# Altium footprint library __ui.PcbLib: 79 footprints (part 4 of 5)
Each footprint in its own frame and in the unit in brackets; x right, y up, seen from the top. Pads: shape width x height; smd on the part's side, far side on the other; paste and mask are expansions set on the pad; w line width, h text height; cw(c..) or ccw(c..) is an arc to the next point about the centre after c.
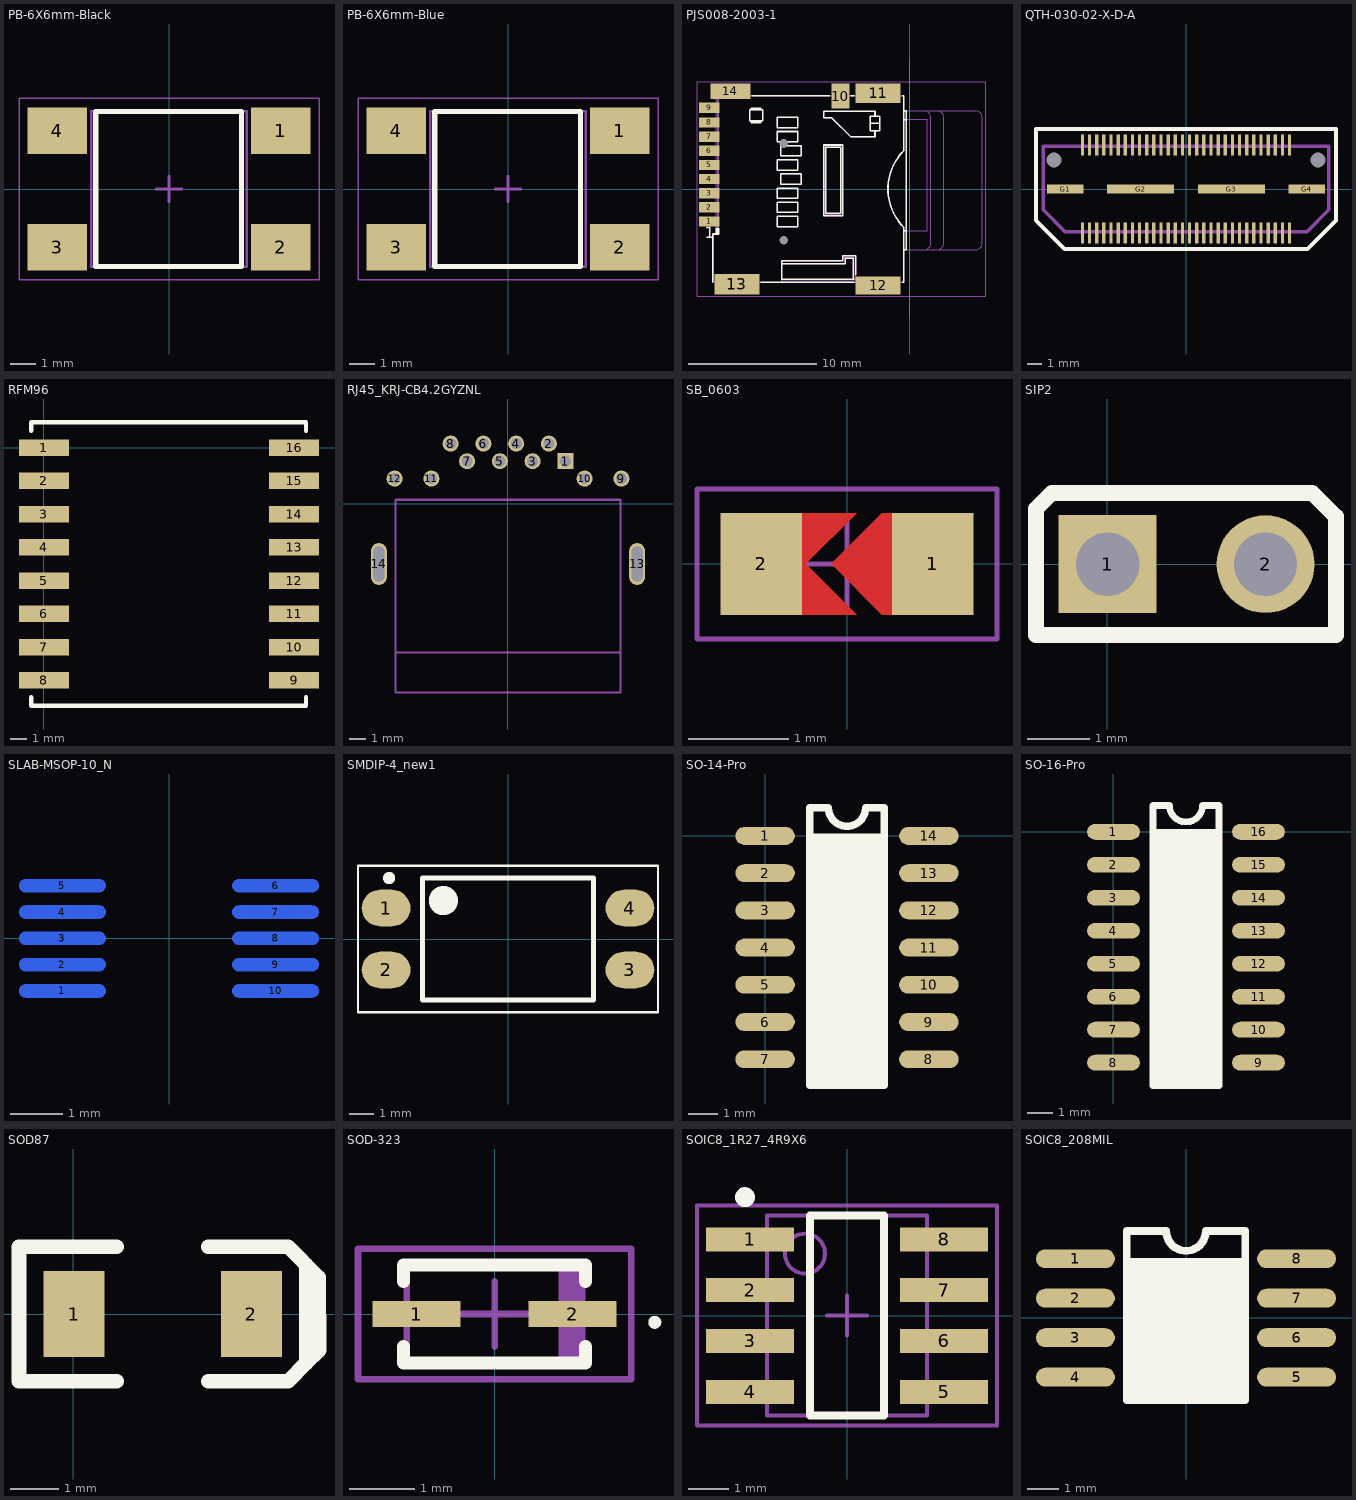
[diagram p3: the footprints below, top view; thin cyan lines are the x and y axes]

## PB-6X6mm-Black [mm] "Surface Mounting Type Tact Switch, 4-Leads, Body 6x6mm, Height 4.5mm Black"
height 4.5
pads (4):
  rect 2.3x1.8 smd: 1(4.325,2.25) 2(4.325,-2.25) 3(-4.325,-2.25) 4(-4.325,2.25)
Top Overlay:
  lines w0.2: -2.831,-3 2.808,-3 2.808,3 -2.831,3 -2.831,-3
Mechanical 13:
  lines w0.1: -3,-3 -3,3 3,3 3,-3 -3,-3
Mechanical 15:
  lines w0.05: -5.8,-3.5 -5.8,3.5 5.8,3.5 5.8,-3.5 -5.8,-3.5
  lines w0.1: -0.5,0 0.5,0 ; 0,-0.5 0,0.5
3D body: height 3.9, standoff 2.3, extent 1.359,-2.956 2.95,-1.362
3D body: height 3.9, standoff 2.3, extent -2.956,-2.951 -1.362,-1.359
3D body: height 3.9, standoff 2.3, extent 1.363,1.359 2.956,2.95
3D body: height 3.9, standoff 2.3, extent -2.951,1.363 -1.359,2.956
3D body: height 10.5, standoff 3.5, extent -1.736,-1.746 1.75,1.747
3D body: height 3.5, standoff 0, extent -3,-3 3,3

## PB-6X6mm-Blue [mm] "Surface Mounting Type Tact Switch, 4-Leads, Body 6x6mm, Height 4.5mm,Blue"
height 4.5
pads (4):
  rect 2.3x1.8 smd: 1(4.325,2.25) 2(4.325,-2.25) 3(-4.325,-2.25) 4(-4.325,2.25)
Top Overlay:
  lines w0.2: -2.831,-3 -2.831,3 2.808,3 2.808,-3 -2.831,-3
Mechanical 13:
  lines w0.1: -3,-3 3,-3 3,3 -3,3 -3,-3
Mechanical 15:
  lines w0.05: -5.8,-3.5 -5.8,3.5 5.8,3.5 5.8,-3.5 -5.8,-3.5
  lines w0.1: -0.5,0 0.5,0 ; 0,-0.5 0,0.5
3D body: height 3.5, standoff 0, extent -3,-3 3,3
3D body: height 10.5, standoff 3.5, extent -1.736,-1.746 1.75,1.747
3D body: height 3.9, standoff 2.3, extent -2.951,1.363 -1.359,2.956
3D body: height 3.9, standoff 2.3, extent 1.363,1.359 2.956,2.95
3D body: height 3.9, standoff 2.3, extent -2.956,-2.951 -1.362,-1.359
3D body: height 3.9, standoff 2.3, extent 1.359,-2.956 2.95,-1.362

## PJS008-2003-1 [mm]
pads (16):
  rect 1.6x0.8 smd paste+0 mask+0.05: 1(-15.6,-2.525) 2(-15.6,-1.425) 3(-15.6,-0.325) 4(-15.6,0.775) 5(-15.6,1.875) 6(-15.6,2.975) 7(-15.6,4.075) 8(-15.6,5.175) 9(-15.6,6.325)
  rect 1.4x1.95 smd paste+0 mask+0.05: 10(-5.4,7.225)
  rect 3.5x1.5 smd paste+0 mask+0.05: 11(-2.45,7.45)
  rect 3.5x1.4 smd paste+0 mask+0.05: 12(-2.45,-7.5)
  rect 3.5x1.6 smd paste+0 mask+0.05: 13(-13.45,-7.4)
  rect 3.1x1.2 smd paste+0 mask+0.05: 14(-13.95,7.6)
  round 0 hole 0.65 unplated mask+0.05: NPTH1(-9.8,-4)
  round 0 hole 0.7 unplated mask+0.05: NPTH2(-9.8,3.55)
Top Overlay:
  lines w0.12: -15.325,-7.25 -15.325,-3.5 -14.85,-3.5 -14.85,-3.05 ; -15.05,-3.5 -15.05,-3.05 ; -14.95,-3.5 -14.95,-3.05 ; -12.325,5.3 -12.325,5.175 -11.575,5.175 -11.575,5.3 ; -12.325,6.175 -12.325,6.3 -11.575,6.3 -11.575,6.175 ; -12.275,7.25 -6.225,7.25 ; -11.575,-7.25 -4.325,-7.25 ; -9.95,-5.825 -5.025,-5.825 -5.025,-5.375 -4.375,-5.375 -4.375,-7.025 ; -4.575,7.25 -4.325,7.25 ; -4.325,-7.025 -9.95,-7.025 -9.95,-5.575 -5.2,-5.575 -5.2,-5.2 -4.2,-5.2 -4.2,-6.675 ; -3.075,5.113 -2.325,5.113 ; -2.7,4.55 -2.7,4.05 -4.575,4.05 -6.075,5.55 -6.7,5.55 -6.7,6.05 -2.7,6.05 -2.7,5.675 ; -0.575,-7.25 -0.45,-7.25 -0.45,-3 cw(c2.55,0) -0.45,3 -0.45,7.25 -0.575,7.25 ; -0.452,-3.257 -0.284,-3.258 ; -0.452,5.379 -0.284,5.378 ; -0.45,-4.725 -0.283,-4.725 -0.283,6.074 -0.45,6.075 ; -12.45,5.3 -12.45,6.175 -11.45,6.175 -11.45,5.3 -12.45,5.3 ; -10.3,-2.925 -8.7,-2.925 -8.7,-2.125 -10.3,-2.125 -10.3,-2.925 ; -10.3,-1.825 -10.3,-1.025 -8.7,-1.025 -8.7,-1.825 -10.3,-1.825 ; -10.3,-0.725 -10.3,0.075 -8.7,0.075 -8.7,-0.725 -10.3,-0.725 ; -10.3,1.475 -10.3,2.275 -8.7,2.275 -8.7,1.475 -10.3,1.475 ; -10.3,3.675 -10.3,4.475 -8.7,4.475 -8.7,3.675 -10.3,3.675 ; -10.3,4.775 -10.3,5.575 -8.7,5.575 -8.7,4.775 -10.3,4.775 ; -10.05,0.375 -10.05,1.175 -8.45,1.175 -8.45,0.375 -10.05,0.375 ; -10.05,2.575 -10.05,3.375 -8.45,3.375 -8.45,2.575 -10.05,2.575 ; -6.7,-2.075 -5.2,-2.075 -5.2,3.425 -6.7,3.425 -6.7,-2.075 ; -6.525,-1.9 -5.375,-1.9 -5.375,3.25 -6.525,3.25 -6.525,-1.9 ; -3.075,4.55 -2.325,4.55 -2.325,5.675 -3.075,5.675 -3.075,4.55
  text "1" at -15.95,-4.15 h1.5
Mechanical 4:
  drawing of 160 lines, arcs and shapes, not listed
  text "'.Designator'" at -9.779,-9.144 h0.75
  text "10" at -6.075,6.15 h1.5
  text "9" at -14.5,5.825 h1.5
  text "1" at -14.45,-3 h1.5
Mechanical 7:
  lines w0.01: 0,-10 0,10
  text "PCB" at 0.075,10 h1
  text "EDGE" at 0.075,-7.575 h1
3D body "PJS008-2003.STEP": height 2, standoff 0, extent -15.035,-7.175 -0.835,7.424

## QTH-030-02-X-D-A [mm]
pads (66):
  rect 0.229x1.45 smd mask+0.05: 1(-7.25,3.086) 2(-7.25,-3.086) 3(-6.75,3.086) 4(-6.75,-3.086) 5(-6.25,3.086) 6(-6.25,-3.086) 7(-5.75,3.086) 8(-5.75,-3.086) 9(-5.25,3.086) 10(-5.25,-3.086) 11(-4.75,3.086) 12(-4.75,-3.086) 13(-4.25,3.086) 14(-4.25,-3.086) 15(-3.75,3.086) 16(-3.75,-3.086) 17(-3.25,3.086) 18(-3.25,-3.086) 19(-2.75,3.086) 20(-2.75,-3.086) 21(-2.25,3.086) 22(-2.25,-3.086) 23(-1.75,3.086) 24(-1.75,-3.086) 25(-1.25,3.086) 26(-1.25,-3.086) 27(-0.75,3.086) 28(-0.75,-3.086) 29(-0.25,3.086) 30(-0.25,-3.086) 31(0.25,3.086) 32(0.25,-3.086) 33(0.75,3.086) 34(0.75,-3.086) 35(1.25,3.086) 36(1.25,-3.086) 37(1.75,3.086) 38(1.75,-3.086) 39(2.25,3.086) 40(2.25,-3.086) 41(2.75,3.086) 42(2.75,-3.086) 43(3.25,3.086) 44(3.25,-3.086) 45(3.75,3.086) 46(3.75,-3.086) 47(4.25,3.086) 48(4.25,-3.086) 49(4.75,3.086) 50(4.75,-3.086) 51(5.25,3.086) 52(5.25,-3.086) 53(5.75,3.086) 54(5.75,-3.086) 55(6.25,3.086) 56(6.25,-3.086) 57(6.75,3.086) 58(6.75,-3.086) 59(7.25,3.086) 60(7.25,-3.086)
  rect 2.54x0.64 smd mask+0.05: G1(-8.445,0) G4(8.445,0)
  rect 4.7x0.64 smd mask+0.05: G2(-3.175,0) G3(3.175,0)
  round 0 hole 1.02 unplated: MH1(-9.24,2.03) MH2(9.24,2.03)
Top Overlay:
  lines w0.254: -10.5,-2.2 -10.5,4.2 10.5,4.2 10.5,-2.2 8.5,-4.2 -8.5,-4.2 -10.5,-2.2
Mechanical 1:
  lines w0.254: -10,-1.461 -10,2.985 10,2.985 10,-1.461 8.476,-2.985 -8.476,-2.985 -10,-1.461
  text "J1" at -0.497,-0.508 h0.76

## RFM96 [mm]
pads (16):
  rect 3x1 smd: 1(0,0) 2(0,-2) 3(0,-4) 4(0,-6) 5(0,-8) 6(0,-10) 7(0,-12) 8(0,-14) 9(15.037,-14) 10(15.037,-12) 11(15.037,-10) 12(15.037,-8) 13(15.037,-6) 14(15.037,-4) 15(15.037,-2) 16(15.037,0)
Top Overlay:
  lines w0.254: -0.762,-15.016 -0.762,-15.524 15.748,-15.524 15.748,-15.016 ; -0.762,1.016 -0.762,1.524 15.748,1.524 15.748,1.016

## RJ45_KRJ-CB4.2GYZNL [mm] "RJ45  connector, right angle"
height 1
pads (14):
  rect 1x1 hole 0.7: 1(3.57,2.65)
  round 1 hole 0.7: 2(2.55,3.75) 3(1.53,2.65) 4(0.51,3.75) 5(-0.51,2.65) 6(-1.53,3.75) 7(-2.55,2.65) 8(-3.57,3.75) 9(7.06,1.57) 10(4.77,1.57) 11(-4.77,1.57) 12(-7.06,1.57)
  oval 1x2.6 hole 0.7 slot 2.2 at 90 deg: 13(8.04,-3.75) 14(-8.04,-3.75)
Mechanical 1:
  lines w0.127: -7,-9.25 7,-9.25 ; -7,-11.75 7,-11.75 7,0.25 -7,0.25 -7,-11.75
3D body: height 6.8, standoff -4.2, extent -8.103,-11.75 8.077,-9.25
3D body: height 6.8, standoff 0, extent -8.103,-9.25 8.077,3.465
3D body: height 4.2, standoff -4.2, extent -7,-9.25 7,0.25

## SB_0603 [mil] "Jumper"
height 39.37
pads (2):
  rect 32x40 smd: 1(33.75,0) 2(-33.75,0)
Top Layer:
  region: -26.25,0 -16.25,0 3.75,-20 -26.25,-20
  region: -26.25,0 -16.25,0 3.75,20 -26.25,20
  region: 23.75,20 13.75,20 -6.25,0 13.75,-20 23.75,-20
Top Paste:
  region: -26.25,0 -16.25,0 3.75,-20 -26.25,-20
  region: -26.25,0 -16.25,0 3.75,20 -26.25,20
  region: 23.75,20 13.75,20 -6.25,0 13.75,-20 23.75,-20
Top Solder:
  region: -26.25,0 -12.25,0 11.75,-24 -26.25,-24
  region: -26.25,0 -12.25,0 11.75,24 -26.25,24
  region: 23.75,24 13.75,24 -10.25,0 13.75,-24 23.75,-24
Mechanical 15:
  lines w1.97: -18.7,0 18.7,0 ; 0,-18.7 0,18.7 ; -59.06,-29.53 59.06,-29.53 59.06,29.53 -59.06,29.53 -59.06,-29.53

## SIP2 [mil]
pads (2):
  rect 62x62 hole 40: 1(0.39,-0.11)
  round 62 hole 40: 2(100.39,-0.11)
Top Overlay:
  lines w10: -45,-45 -45,35 -35,45 130,45 145,30 145,-45 -45,-45

## SLAB-MSOP-10_N [mm] "SOP, 10-Leads, Body 3x3mm, Pitch 0.5mm, IPC Medium Density"
height 1.1
pads (10):
  oval 1.65x0.25 smd far side: 1(-2.025,-1) 2(-2.025,-0.5) 3(-2.025,0) 4(-2.025,0.5) 5(-2.025,1) 6(2.025,1) 7(2.025,0.5) 8(2.025,0) 9(2.025,-0.5) 10(2.025,-1)
Bottom Overlay:
  circle w0.25: c-2.025,-1.725 r0.125
  lines w0.2: -0.8,-1.5 -0.8,1.5 0.8,1.5 0.8,-1.5 0.4,-1.5 0.17,-1.27 -0.17,-1.27 -0.4,-1.5 -0.8,-1.5

## SMDIP-4_new1 [mm] "4 pin SMD DIP, pitch 2.54mm"
height 4
pads (4):
  oval 2x1.5 smd: 1(-5,1.27) 2(-5,-1.27) 3(5,-1.27) 4(5,1.27)
Top Overlay:
  circle w0.25: c-4.875,2.5 r0.125
  circle w0.6: c-2.65,1.575 r0.3
  lines w0.1: -6.15,-3 -6.15,3 6.15,3 6.15,-3 -6.15,-3
  lines w0.2: -3.5,-2.5 -3.5,2.5 3.5,2.5 3.5,-2.5 -3.5,-2.5

## SO-14-Pro [mil]
pads (14):
  oval 80x24 smd: 1(0,0) 2(0,-50) 3(0,-100) 4(0,-150) 5(0,-200) 6(0,-250) 7(0,-300) 8(220,-300) 9(220,-250) 10(220,-200) 11(220,-150) 12(220,-100) 13(220,-50) 14(220,0)
Top Overlay:
  rectangle: 59,-335 161,3
  lines w10: 60,-335 60,38 85,38 ccw(c110,38) 135,38 160,38 160,-335 60,-335

## SO-16-Pro [mil]
pads (16):
  oval 80x24 smd: 1(0,0) 2(0,-50) 3(0,-100) 4(0,-150) 5(0,-200) 6(0,-250) 7(0,-300) 8(0,-350) 9(220,-350) 10(220,-300) 11(220,-250) 12(220,-200) 13(220,-150) 14(220,-100) 15(220,-50) 16(220,0)
Top Overlay:
  rectangle: 59,-385 159,4
  lines w10: 60,-385 160,-385 160,40 135,40 cw(c110,40) 85,40 60,40 60,-385

## SOD87 [mil]
pads (2):
  rect 50x70 smd: 1(0.46,0.23) 2(145.46,0.23)
Top Overlay:
  lines w12: 35.46,-54.77 -44.54,-54.77 -44.54,55.23 35.46,55.23 ; 110.46,-54.77 175.46,-54.77 190.46,-39.77 ; 110.46,55.23 175.46,55.23 200.63,30.06 200.76,-29.31 190.46,-39.66 190.46,40.23

## SOD-323 [mm] "Diode"
height 1
pads (2):
  rect 1.35x0.4 smd: 1(-1.2,0) 2(1.2,0)
Top Overlay:
  circle w0.1: c2.463,-0.127 r0.05
  lines w0.2: -1.4,-0.5 -1.4,-0.75 1.4,-0.75 1.4,-0.5 ; -1.4,0.5 -1.4,0.75 1.4,0.75 1.4,0.5
Mechanical 13:
  region: 1.35,0.724 0.986,0.724 0.986,-0.726 1.35,-0.726
  lines w0.1: -1.35,-0.725 -1.35,0.725 1.35,0.725 1.35,-0.725 -1.35,-0.725
Mechanical 15:
  lines w0.1: -0.5,0 0.5,0 ; 0,-0.5 0,0.5 ; -2.1,-1 -2.1,1 2.1,1 2.1,-1 -2.1,-1
3D body: height 1.17, standoff 0, extent -1.35,-0.725 1.35,0.725

## SOIC8_1R27_4R9X6 [mm] "1.2 A current limited high-side power switch with thermal shutdown"
height 1.75
pads (8):
  rect 2.2x0.6 smd: 1(-2.425,1.905) 2(-2.425,0.635) 3(-2.425,-0.635) 4(-2.425,-1.905) 5(2.425,-1.905) 6(2.425,-0.635) 7(2.425,0.635) 8(2.425,1.905)
Top Overlay:
  circle w0.25: c-2.55,2.96 r0.125
  lines w0.2: -0.925,-2.5 -0.925,2.5 0.925,2.5 0.925,-2.5 -0.925,-2.5
Mechanical 13:
  circle w0.1: c-1.05,1.55 r0.5
  lines w0.1: -2,-2.5 -2,2.5 2,2.5 2,-2.5 -2,-2.5
Mechanical 15:
  lines w0.1: -0.5,0 0.5,0 ; 0,-0.5 0,0.5 ; -3.75,-2.75 -3.75,2.75 3.75,2.75 3.75,-2.75 -3.75,-2.75
3D body: height 1.45, standoff 0.1, extent -2,-2.5 2,2.5

## SOIC8_208MIL [mil]
pads (8):
  oval 100x24 smd: 1(-140,75) 2(-140,25) 3(-140,-25) 4(-140,-75) 5(140,-75) 6(140,-25) 7(140,25) 8(140,75)
Top Overlay:
  rectangle: -75,-103 75,76
  lines w10: -43.75,110 -75,110 -75,-104 75,-104 75,-26 75,30 75,110 25,110 cw(c0,110) -25,110 -31.25,110 -43.75,110 ; -43.75,110 -43.75,110